# EAGLE library part NRF24L01 (library EF_Lib)
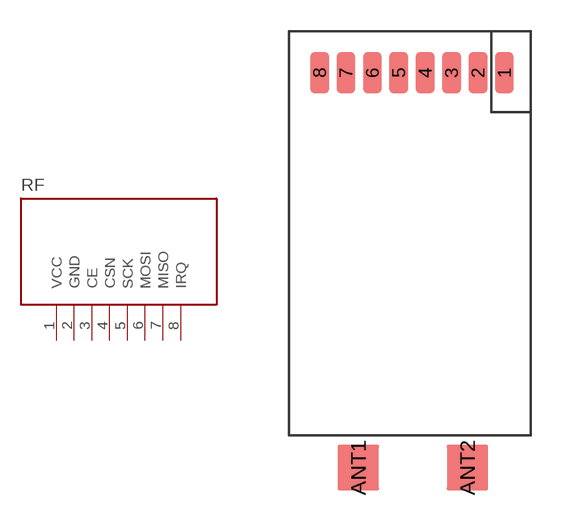
[diagram p3: symbol with the pads of NRF24L01-MINI; footprint NRF24L01-MINI]

Designator prefix RF

## NRF24L01  [NRF24L01-MINI]
1  VCC
2  GND
3  CE
4  CSN
5  SCK
6  MOSI
7  MISO
8  IRQ

## Footprint NRF24L01-MINI (pad centres in mm)
smd 0.9 x 2: 1 9.525,0; 2 8.255,0; 3 6.985,0; 4 5.715,0; 5 4.445,0; 6 3.175,0; 7 1.905,0; 8 0.635,0
smd 2 x 2.2: ANT1 2.5,-19; ANT2 7.75,-19